# Altium schematic symbol library generic.SchLib: 39 symbols
Pins are listed as number, name and electrical type; pins without a type are passive.

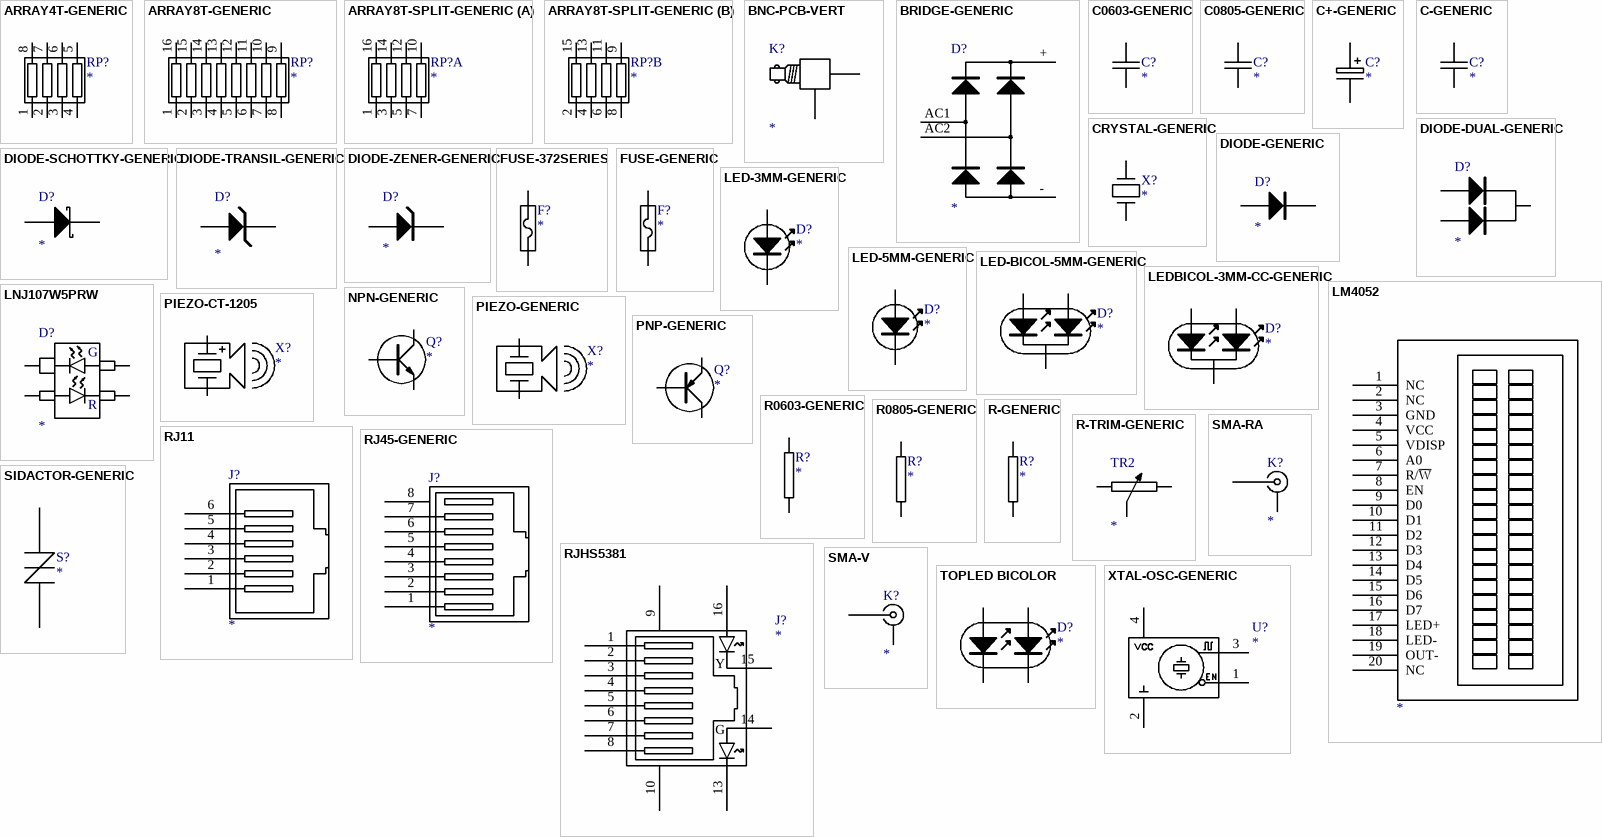
[diagram p0: symbols ARRAY4T-GENERIC to XTAL-OSC-GENERIC]

## ARRAY4T-GENERIC
designator RP?
GENERIC RESISTOR ARRAY 4X INDEPENDENT
footprint 1206-ARRAY-4-GENERIC
pins: 1, 2, 3, 4, 5, 6, 7, 8

## ARRAY8T-GENERIC
designator RP?
GENERIC RESISTOR ARRAY 8X INDEPENDENT
footprint 1206-ARRAY-8-GENERIC
pins: 1, 2, 3, 4, 5, 6, 7, 8, 9, 10, 11, 12, 13, 14, 15, 16

## ARRAY8T-SPLIT-GENERIC
designator RP?
GENERIC RESISTOR ARRAY 4X INDEPENDENT
footprint 1206-ARRAY-8-GENERIC
part A pins: 1, 3, 5, 7, 10, 12, 14, 16
part B pins: 2, 4, 6, 8, 9, 11, 13, 15

## BNC-PCB-VERT
designator K?
GENERIC BNC CONNECTOR
pins: 1, 2 GND, A, B

## BRIDGE-GENERIC
designator D?
GENERIC RECTIFIER BRIDGE
pins: +, -, AC1, AC2

## C0603-GENERIC
designator C?
GENERIC CAPACITOR NON POLARISED 0603
footprint 0603C-GENERIC (CAPACITOR 0805)
pins: 1, 2

## C0805-GENERIC
designator C?
GENERIC CAPACITOR NON POLARISED0603
footprint 0805C-GENERIC (CAPACITOR 0805)
pins: 1, 2

## C+-GENERIC
designator C?
GENERIC CAPACITOR POLARISED
pins: +, -

## C-GENERIC
designator C?
GENERIC CAPACITOR NONPOLARISED
pins: 1, 2

## CRYSTAL-GENERIC
designator X?
GENERIC CRYSTAL
footprint XTAL-RU49/4
pins: 1, 2

## DIODE-DUAL-GENERIC
designator D?
GENERIC DUAL DIODE
pins: A1, A2, K

## DIODE-GENERIC
designator D?
GENERIC DIODE
pins: A, K

## DIODE-SCHOTTKY-GENERIC
designator D?
GENERIC SCHOTTKY DIODE
footprint SOT23-DIODE
pins: A, K

## DIODE-TRANSIL-GENERIC
designator D?
GENERIC TRANSIL
footprint DIODE-SMB
pins: A, K

## DIODE-ZENER-GENERIC
designator D?
GENERIC ZENER DIODE
footprint SOT23-DIODE
pins: A, K

## FUSE-372SERIES
designator F?
FUSE-372
footprint FUSE-372
pins: 1, 2

## FUSE-GENERIC
designator F?
GENERIC FUSE
pins: 1, 2

## LED-3MM-GENERIC
designator D?
GENERIC LED 3MM
pins: A, K

## LED-5MM-GENERIC
designator D?
GENERIC LED 5MM
pins: A, K

## LED-BICOL-5MM-GENERIC
designator D?
LED3 / LED5
pins: A1, A2, K

## LEDBICOL-3MM-CC-GENERIC
designator D?
LED 3MM BICILOR COMMON CATHODE
pins: A1, A2, K

## LM4052
designator ?
LCD display 20x2
pins: 1 NC, 2 NC, 3 GND, 4 VCC, 5 VDISP, 6 A0, 7 R/~{W}, 8 EN, 9 D0, 10 D1, 11 D2, 12 D3, 13 D4, 14 D5, 15 D6, 16 D7, 17 LED+, 18 LED-, 19 OUT-, 20 NC

## LNJ107W5PRW
designator D?
pins: 1, 2, 3, 4
text: G; R

## NPN-GENERIC
designator Q?
NPN BIPOLAR TRANSISTOR
footprint SOT23-BCE
pins: B, C, E

## PIEZO-CT-1205
designator X?
piezo buzzer; Supplier 1: Digi-Key; Supplier Part Number 1: 102-1267-2-ND
footprint PIEZO-CT-1205
pins: +, -

## PIEZO-GENERIC
designator X?
GENERIC PIEZO BUZZER NON OSCILLATING
footprint BZ13MM
pins: 1, 2

## PNP-GENERIC
designator Q?
GENERIC PNP BIPOLAR TRANSISTOR
footprint SOT23-BCE
pins: B, C, E

## R0603-GENERIC
designator R?
GENERIC RESISTOR 0603
footprint 0603R-GENERIC (RESISTOR 0603)
pins: 1, 2

## R0805-GENERIC
designator R?
GENERIC RESISTOR 0805
footprint 0805R-GENERIC (RESISTOR 0805)
pins: 1, 2

## R-GENERIC
designator R?
GENERIC THROUGH HOLE 1/4 WATT RESISTOR
footprint R
pins: 1, 2

## R-TRIM-GENERIC
designator TR2
Adjustable resistor
pins: 1, 2, W

## RJ11
designator J?
GENERIC RJ11 6 PIN CONNECTOR
footprint RJ11
pins: 1, 2, 3, 4, 5, 6

## RJ45-GENERIC
designator J?
GENERIC RJ45 CONNECTOR 8 PIN
footprint RJ45-8/8
pins: 1, 2, 3, 4, 5, 6, 7, 8

## RJHS5381
designator J?
ETHERNET CONNECTOR WITH TWO LEDS
footprint RJHS5381
pins: 1, 2, 3, 4, 5, 6, 7, 8, 9, 10, 13, 14, 15, 16
text: Y; G

## SIDACTOR-GENERIC
designator S?
GENERIC SIDACTOR; Teccor: *; P3100SB: *
footprint SIDACTOR
pins: 1, 2

## SMA-RA
designator K?
SMA THREADED RF CONNECTOR VERTICAL
footprint SMA-RA
pins: 1, 2, 3, 4, 5

## SMA-V
designator K?
SMA THREADED RF CONNECTOR VERTICAL
footprint SMA-V
pins: 1, 2, 3, 4, 5

## TOPLED BICOLOR
designator D?
GENERIC TOPLED BICOLOR
pins: A1, A2, K1, K2

## XTAL-OSC-GENERIC
designator U?
GENERIC CRYSTAL OSCILLATOR
footprint XOSC-5X7
pins: 1 EN, 2 GND, 3 OUT, 4 VCC